# EAGLE library part M83-LMT1M2N36 (library BrownSpaceEngineering)
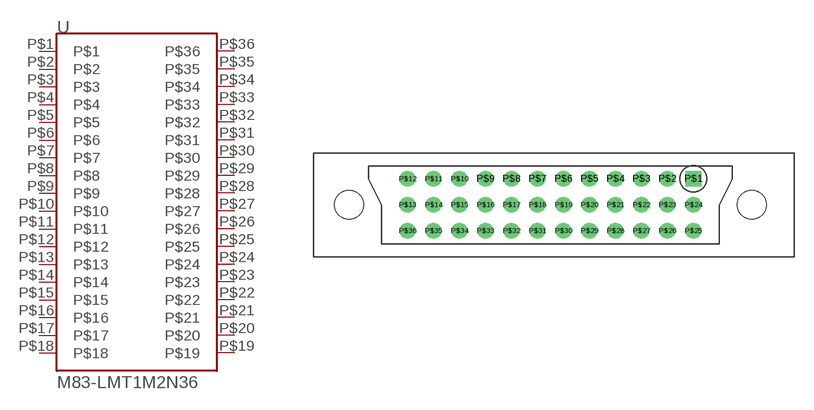
[diagram p9: symbol with the pads of M83-LMT1M2N36; footprint M83-LMT1M2N36]

Designator prefix -

## M83-LMT1M2N36  [M83-LMT1M2N36]
P$1  P$1
P$2  P$2
P$3  P$3
P$4  P$4
P$5  P$5
P$6  P$6
P$7  P$7
P$8  P$8
P$9  P$9
P$10  P$10
P$11  P$11
P$12  P$12
P$13  P$13
P$14  P$14
P$15  P$15
P$16  P$16
P$17  P$17
P$18  P$18
P$19  P$19
P$20  P$20
P$21  P$21
P$22  P$22
P$23  P$23
P$24  P$24
P$25  P$25
P$26  P$26
P$27  P$27
P$28  P$28
P$29  P$29
P$30  P$30
P$31  P$31
P$32  P$32
P$33  P$33
P$34  P$34
P$35  P$35
P$36  P$36

## Footprint M83-LMT1M2N36 (pad centres in mm)
drill 0.7 square: P$1 0,0
drill 0.7: P$2 -2,0; P$3 -4,0; P$4 -6,0; P$5 -8,0; P$6 -10,0; P$7 -12,0; P$8 -14,0; P$9 -16,0; P$10 -18,0; P$11 -20,0; P$12 -22,0; P$13 -22,-2; P$14 -20,-2; P$15 -18,-2; P$16 -16,-2; P$17 -14,-2; P$18 -12,-2; P$19 -10,-2; P$20 -8,-2; P$21 -6,-2; P$22 -4,-2; P$23 -2,-2; P$24 0,-2; P$25 0,-4; P$26 -2,-4; P$27 -4,-4; P$28 -6,-4; P$29 -8,-4; P$30 -10,-4; P$31 -12,-4; P$32 -14,-4; P$33 -16,-4; P$34 -18,-4; P$35 -20,-4; P$36 -22,-4
hole 2.2 at 4.5,-2
hole 2.2 at -26.5,-2